# Altium schematic symbol library Juricic_Ivan.SchLib: 7 symbols
Pins are listed as number, name and electrical type; pins without a type are passive.

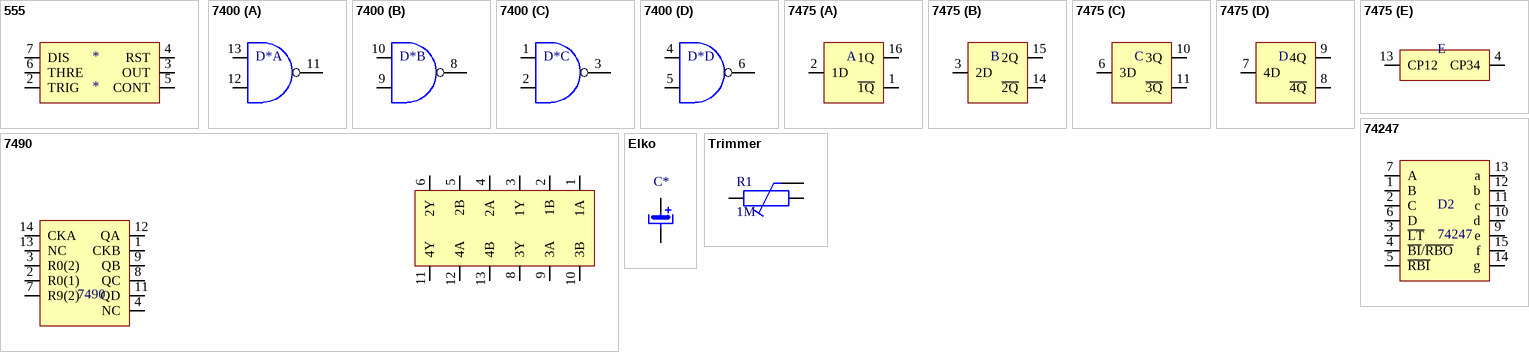
[diagram p0: symbols 555 to Trimmer]

## 555
designator *
pins: 2 TRIG, 3 OUT, 4 RST, 5 CONT, 6 THRE, 7 DIS

## 7400
designator D*
part A pins: 11 18, 12 18, 13 18
part B pins: 8 18, 9 18, 10 18
part C pins: 1 18, 2 18, 3 18
part D pins: 4 18, 5 18, 6 18

## 7475
designator ?
part A pins: 1 ~{1Q}, 2 1D, 16 1Q
part B pins: 3 2D, 14 ~{2Q}, 15 2Q
part C pins: 6 3D, 10 3Q, 11 ~{3Q}
part D pins: 7 4D, 8 ~{4Q}, 9 4Q
part E pins: 4 CP34, 13 CP12

## 7490
designator ?
pins: 1 CKB, 1 1A, 2 R0(1), 2 1B, 3 R0(2), 3 1Y, 4 NC, 4 2A, 5 2B, 6 2Y, 7 R9(2), 8 QC, 8 3Y, 9 QB, 9 3A, 10 3B, 11 QD, 11 4Y, 12 QA, 12 4A, 13 NC, 13 4B, 14 CKA

## 74247
designator D2
pins: 1 B, 2 C, 3 ~{LT}, 4 ~{BI}/~{RBO}, 5 ~{RBI}, 6 D, 7 A, 9 e, 10 d, 11 c, 12 b, 13 a, 14 g, 15 f

## Elko
designator C*
pins: 1 16 "+", 2

## Trimmer
designator R1, comment 1M
pins: 1, 2, 3